# Altium footprint library FootPrintLib_5.PCBLIB: 254 footprints (part 9 of 16)
Each footprint in its own frame and in the unit in brackets; x right, y up, seen from the top. Pads: shape width x height; smd on the part's side, far side on the other; paste and mask are expansions set on the pad; w line width, h text height; cw(c..) or ccw(c..) is an arc to the next point about the centre after c.
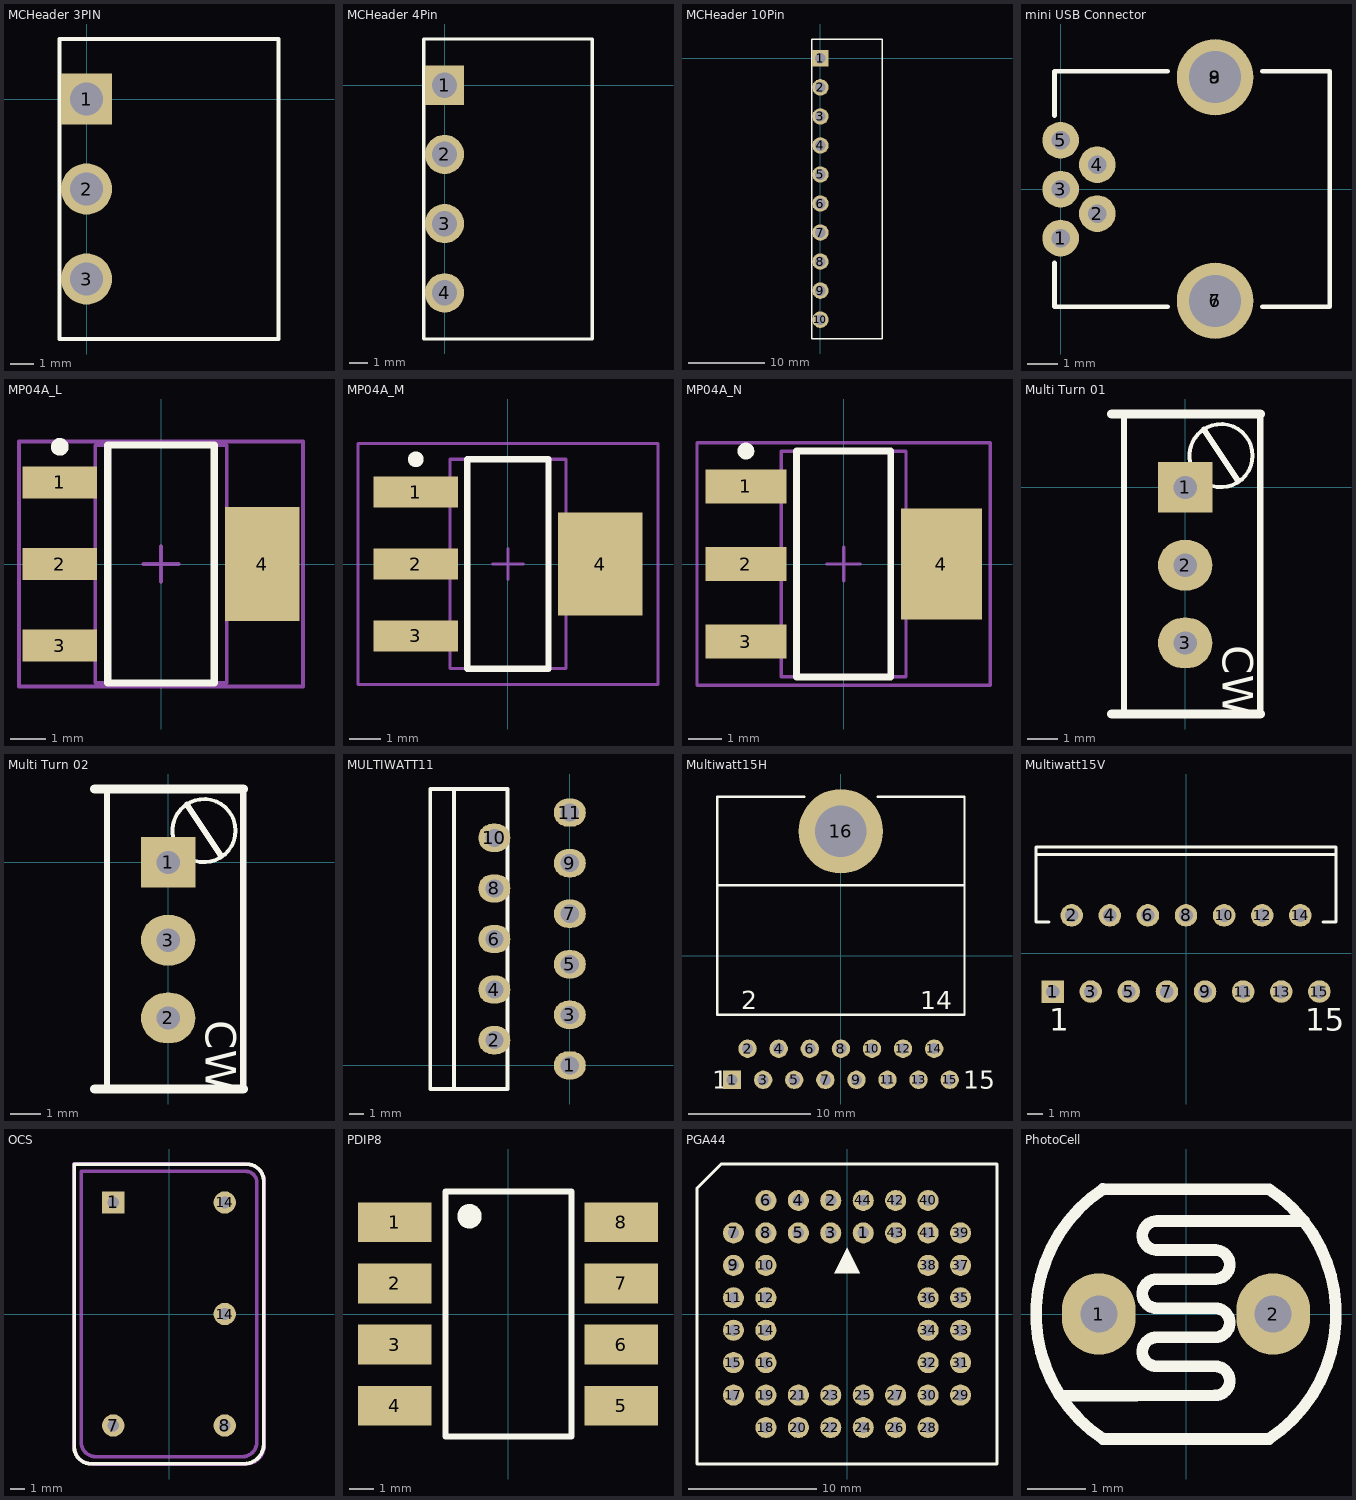
[diagram p8: the footprints below, top view; thin cyan lines are the x and y axes]

## MCHeader 3PIN [mil]
pads (3):
  rect 85x85 hole 55: 1(0,0)
  round 85 hole 55: 2(0,-150) 3(0,-300)
Top Overlay:
  lines w7: -45,-400 320,-400 320,100 -45,100 -45,-400
3D body "mini combicon header 3pin.STEP": height 292.32, standoff -130.12, extent -46.09,-399 318.09,97.85

## MCHeader 4Pin [mil]
pads (4):
  rect 85x85 hole 55: 1(0,0)
  round 85 hole 55: 2(0,-150) 3(0,-300) 4(0,-450)
Top Overlay:
  lines w7: -45,-550 -45,100 320,100 320,-550 -45,-550
3D body "mini combicon header 4pin.STEP": height 292.32, standoff -130.12, extent -49.09,-550.85 315.09,96

## MCHeader 10Pin [mil]
pads (10):
  rect 85x85 hole 55: 1(0,0)
  round 85 hole 55: 2(0,-150) 3(0,-300) 4(0,-450) 5(0,-600) 6(0,-750) 7(0,-900) 8(0,-1050) 9(0,-1200) 10(0,-1350)
Top Overlay:
  lines w7: -45,-1450 320,-1450 320,100 -45,100 -45,-1450
3D body "mini combicon header 10pin.STEP": height 292.32, standoff -130.12, extent -47.09,-1446.85 317.09,100

## mini USB Connector [mm]
pads (9):
  round 1.2 hole 0.6: 1(0,-1.6) 2(1.2,-0.8) 3(0,0) 4(1.2,0.8) 5(0,1.6)
  round 2.5 hole 1.7: 6(5.05,-3.65) 7(5.05,-3.65) 8(5.05,3.66) 9(5.05,3.66)
Top Overlay:
  lines w0.15: -0.2,-2.4 -0.2,-3.85 3.5,-3.85 ; -0.2,2.4 -0.2,3.85 3.5,3.85 ; 6.6,-3.85 8.8,-3.85 8.8,3.85 6.6,3.85
3D body "5877.STEP": height 3.95, standoff -1.8, extent -0.2,-3.85 8.8,3.85

## MP04A_L [mm] "SOT223, 4-Leads, Body 6.5x3.5mm, Pitch 2.3mm, Lead Span 7mm, IPC High Density"
height 1.8
pads (4):
  rect 2.1x0.9 smd: 1(-2.85,2.3) 2(-2.85,0) 3(-2.85,-2.3)
  rect 2.1x3.2 smd: 4(2.85,0)
Top Overlay:
  circle w0.25: c-2.85,3.3 r0.125
  lines w0.2: -1.5,-3.35 1.5,-3.35 1.5,3.35 -1.5,3.35 -1.5,-3.35
Mechanical 13:
  lines w0.1: -1.85,-3.35 1.85,-3.35 1.85,3.35 -1.85,3.35 -1.85,-3.35
Mechanical 15:
  lines w0.1: -0.5,0 0.5,0 ; 0,-0.5 0,0.5 ; -4,-3.45 4,-3.45 4,3.45 -4,3.45 -4,-3.45
3D body "TO-223.STEP": height 1.64, standoff -0.04, extent -3.49,-3.242 3.49,3.242

## MP04A_M [mm] "SOT223, 4-Leads, Body 6.5x3.5mm, Pitch 2.3mm, Lead Span 7mm, IPC Low Density"
height 1.8
pads (4):
  rect 2.7x1 smd: 1(-2.95,2.3) 2(-2.95,0) 3(-2.95,-2.3)
  rect 2.7x3.3 smd: 4(2.95,0)
Top Overlay:
  circle w0.25: c-2.95,3.35 r0.125
  lines w0.2: -1.3,-3.35 1.3,-3.35 1.3,3.35 -1.3,3.35 -1.3,-3.35
Mechanical 13:
  lines w0.1: -1.85,-3.35 1.85,-3.35 1.85,3.35 -1.85,3.35 -1.85,-3.35
Mechanical 15:
  lines w0.1: -0.5,0 0.5,0 ; 0,-0.5 0,0.5 ; -4.8,-3.85 4.8,-3.85 4.8,3.85 -4.8,3.85 -4.8,-3.85
3D body "TO-223.STEP": height 1.64, standoff -0.04, extent -3.49,-3.242 3.49,3.242

## MP04A_N [mm] "SOT223, 4-Leads, Body 6.5x3.5mm, Pitch 2.3mm, Lead Span 7mm, IPC Medium Density"
height 1.8
pads (4):
  rect 2.4x1 smd: 1(-2.9,2.3) 2(-2.9,0) 3(-2.9,-2.3)
  rect 2.4x3.3 smd: 4(2.9,0)
Top Overlay:
  circle w0.25: c-2.9,3.35 r0.125
  lines w0.2: -1.4,-3.35 1.4,-3.35 1.4,3.35 -1.4,3.35 -1.4,-3.35
Mechanical 13:
  lines w0.1: -1.85,-3.35 1.85,-3.35 1.85,3.35 -1.85,3.35 -1.85,-3.35
Mechanical 15:
  lines w0.1: -0.5,0 0.5,0 ; 0,-0.5 0,0.5 ; -4.35,-3.6 4.35,-3.6 4.35,3.6 -4.35,3.6 -4.35,-3.6
3D body "TO-223.STEP": height 1.64, standoff -0.04, extent -3.49,-3.242 3.49,3.242

## Multi Turn 01 [mil] "Stand Multi Turn - Turning CW Increase P1~2 Resistor"
height 472.44
pads (3):
  rect 70x65 hole 30: 1(0,0)
  oval 70x65 hole 30: 2(0,-100) 3(0,-200)
Top Overlay:
  circle w5: c46.03,40.94 r40.58
  lines w7.87: -78.74,-291.34 -78.74,94.49 ; 24.02,74.41 67.72,8.66 ; 96.46,-291.34 96.46,94.49
  lines w11.81: -94.49,-291.34 96.46,-291.34 ; -94.49,94.49 96.46,94.49
  text "CW" at 48,-203 h39.37
3D body "multiturn.STEP": height 452.18, standoff -75.38, extent -73.75,-282.01 92,92.01

## Multi Turn 02 [mil]
pads (3):
  rect 70x65 hole 30: 1(0,0)
  oval 70x65 hole 30: 2(0,-200) 3(0,-100)
Top Overlay:
  circle w5: c46.03,40.94 r40.58
  lines w7.87: -78.74,-291.34 -78.74,94.49 ; 24.02,74.41 67.72,8.66 ; 96.46,-291.34 96.46,94.49
  lines w11.81: -94.49,-291.34 96.46,-291.34 ; -94.49,94.49 96.46,94.49
  text "CW" at 48,-203 h39.37
3D body "multiturn.STEP": height 452.18, standoff -75.38, extent -73.23,-285.04 92.52,88.98

## MULTIWATT11 [mil] "Use For L6203"
height 760
pads (11):
  oval 85x75 hole 48: 1(0,0) 2(-200,67) 3(0,134) 4(-200,201) 5(0,268) 6(-200,335) 7(0,402) 8(-200,469) 9(0,536) 10(-200,603) 11(0,670)
Top Overlay:
  lines w10: -317,732.5 -315,732.5 ; -307,-62.5 -307,732.5 ; -370,-62.5 -370,732.5 -165,732.5 -165,-62.5 -370,-62.5
3D body: height 490, standoff 60, extent -370,-62.5 -165,732.5
3D body: height 20, standoff -40, extent -11,652 11,689
3D body: height 20, standoff -40, extent -211,585 -189,622
3D body: height 20, standoff -40, extent -11,518 11,555
3D body: height 20, standoff -40, extent -211,451 -189,488
3D body: height 20, standoff -40, extent -11,384 11,421
3D body: height 20, standoff -40, extent -211,317 -189,354
3D body: height 20, standoff -40, extent -11,250 11,287
3D body: height 20, standoff -40, extent -211,183 -189,220
3D body: height 20, standoff -40, extent -11,116 11,153
3D body: height 20, standoff -40, extent -211,49 -189,86
3D body: height 20, standoff -40, extent -11,-18 11,19
3D body: height 42, standoff 20, extent -254,585 -189,622
3D body: height 62, standoff 42, extent -254,585 -232,622
3D body: height 62, standoff 42, extent -254,451 -232,488
3D body: height 42, standoff 20, extent -254,451 -189,488
3D body: height 62, standoff 42, extent -254,317 -232,354
3D body: height 42, standoff 20, extent -254,317 -189,354
3D body: height 62, standoff 42, extent -254,183 -232,220
3D body: height 42, standoff 20, extent -254,183 -189,220
3D body: height 62, standoff 42, extent -254,49 -232,86
3D body: height 42, standoff 20, extent -254,49 -189,86
3D body: height 42, standoff 20, extent -254,652 11,689
3D body: height 62, standoff 42, extent -254,652 -232,689
3D body: height 62, standoff 42, extent -254,518 -232,555
3D body: height 42, standoff 20, extent -254,518 11,555
3D body: height 62, standoff 42, extent -254,384 -232,421
3D body: height 42, standoff 20, extent -254,384 11,421
3D body: height 62, standoff 42, extent -254,250 -232,287
3D body: height 42, standoff 20, extent -254,250 11,287
3D body: height 62, standoff 42, extent -254,116 -232,153
3D body: height 42, standoff 20, extent -254,116 11,153
3D body: height 62, standoff 42, extent -254,-18 -232,19
3D body: height 42, standoff 20, extent -254,-18 11,19
3D body: height 760, standoff 62, extent -368,-61 -307,731

## Multiwatt15H [mm] "TO, Thru-Hole, Horizontal, Heatsink Mounted; 15 Bent Staggered Leads; Pitch 1.27 mm"
height 5
pads (16):
  rect 1.5x1.5 hole 0.9: 1(-8.89,-10.155)
  round 1.5 hole 0.9: 2(-7.62,-7.615) 3(-6.35,-10.155) 4(-5.08,-7.615) 5(-3.81,-10.155) 6(-2.54,-7.615) 7(-1.27,-10.155) 8(0,-7.615) 9(1.27,-10.155) 10(2.54,-7.615) 11(3.81,-10.155) 12(5.08,-7.615) 13(6.35,-10.155) 14(7.62,-7.615) 15(8.89,-10.155)
  round 6.9 hole 4.2: 16(0,10.155)
Top Overlay:
  lines w0.2: -10.1,5.755 10.1,5.755 ; -3,12.955 -10.1,12.955 -10.1,-4.845 10.1,-4.845 10.1,12.955 3,12.955
  text "1" at -10.515,-10.905 h1.5
  text "15" at 10.015,-10.905 h1.5
  text "14" at 6.495,-4.37 h1.5
  text "2" at -8.12,-4.37 h1.5

## Multiwatt15V [mm] "TO, Thru-Hole, Vertical, Heatsink Mounted; 15 Bent Staggered Leads; Pitch 1.27 mm"
height 21
pads (15):
  rect 1.5x1.5 hole 0.9: 1(-8.89,-2.54)
  round 1.5 hole 0.9: 2(-7.62,2.54) 3(-6.35,-2.54) 4(-5.08,2.54) 5(-3.81,-2.54) 6(-2.54,2.54) 7(-1.27,-2.54) 8(0,2.54) 9(1.27,-2.54) 10(2.54,2.54) 11(3.81,-2.54) 12(5.08,2.54) 13(6.35,-2.54) 14(7.62,2.54) 15(8.89,-2.54)
Top Overlay:
  lines w0.2: -10,6.59 10,6.59 ; -9.144,2.09 -10,2.09 -10,7.09 10,7.09 10,2.09 9.144,2.09
  text "15" at 7.94,-5.165 h1.5
  text "1" at -9.12,-5.165 h1.5

## OCS [mil]
pads (5):
  rect 60x60 hole 32: 1(-150,300)
  round 60 hole 32: 7(-150,-300) 8(150,-300) 14(150,0) 14(150,300)
Top Overlay:
  lines w10: -255,-358 ccw(c-210,-358) -210,-403 202,-403 ccw(c202,-350) 255,-350 255,350 255,358 ccw(c210,358) 210,403 -210,403 -255,403 -255,350 -255,-350 -255,-358
Mechanical 1:
  circle w10: c-150,-300 r10
  circle w10: c150,-300 r10
  circle w10: c150,300 r10
  circle w10: c-150,300 r10
  lines w10: -255.91,-354.33 ccw(c-206.69,-354.33) -206.69,-403.54 206.69,-403.54 ccw(c206.69,-354.33) 255.91,-354.33 255.91,354.33 ccw(c206.69,354.33) 206.69,403.54 -255.91,403.54 -255.91,-354.33 ; -236.22,-344.49 ccw(c-196.85,-344.49) -196.85,-383.86 196.85,-383.86 ccw(c196.85,-344.49) 236.22,-344.49 236.22,354.33 ccw(c206.69,354.33) 206.69,383.86 -236.22,383.86 -236.22,-344.49
3D body: height 30, standoff 0, extent -255.89,-403.52 255.89,403.52
3D body: height 170, standoff 0, extent -236.2,-383.84 236.2,383.84
3D body: height 0, standoff -50, extent -159.98,-309.98 -140.02,-290.02
3D body: height 0, standoff -50, extent 140.02,-309.98 159.98,-290.02
3D body: height 0, standoff -50, extent -159.98,290.02 -140.02,309.98
3D body: height 0, standoff -50, extent 140.02,290.02 159.98,309.98

## PDIP8 [mil] "DIP8 SMD Package"
pads (8):
  rect 120x65 smd: 1(-185,150) 2(-185,50) 3(-185,-50) 4(-185,-150) 5(185,-150) 6(185,-50) 7(185,50) 8(185,150)
Top Overlay:
  circle w20: c-62.92,159.64 r10
  lines w10: -102,-200 -102,200 104,200 104,-200 -102,-200
3D body "SW3dPS-pdip8-smd.STEP": height 200, standoff 0, extent -202.75,-195.08 202.76,195.08

## PGA44 [mil] "PLCC Socket with 44 Positions"
pads (44):
  round 65 hole 35: 1(50,250) 2(-50,350) 3(-50,250) 4(-150,350) 5(-150,250) 6(-250,350) 7(-350,250) 8(-250,250) 9(-350,150) 10(-250,150) 11(-350,50) 12(-250,50) 13(-350,-50) 14(-250,-50) 15(-350,-150) 16(-250,-150) 17(-350,-250) 18(-250,-350) 19(-250,-250) 20(-150,-350) 21(-150,-250) 22(-50,-350) 23(-50,-250) 24(50,-350) 25(50,-250) 26(150,-350) 27(150,-250) 28(250,-350) 29(350,-250) 30(250,-250) 31(350,-150) 32(250,-150) 33(350,-50) 34(250,-50) 35(350,50) 36(250,50) 37(350,150) 38(250,150) 39(350,250) 40(250,350) 41(250,250) 42(150,350) 43(150,250) 44(50,350)
Top Overlay:
  region: 0,205 40,125 -40,125
  lines w10: -462.5,-462.5 462.5,-462.5 462.5,462.5 -387.5,462.5 -462.5,387.5 -462.5,-462.5
3D body "Full PLCC 44 Socket.STEP": height 312.16, standoff -86.4, extent -462.5,-462.5 462.5,462.5

## PhotoCell [mm]
pads (2):
  oval 1.27x1.397 hole 0.635: 1(-1.5,0) 2(1.5,0)
Top Overlay:
  lines w0.2: -2.16,-1.41 0.5,-1.4 ccw(c0.502,-1.15) 0.501,-0.9 -0.5,-0.9 cw(c-0.502,-0.65) -0.5,-0.4 0.5,-0.4 ccw(c0.502,-0.15) 0.501,0.1 -0.5,0.1 cw(c-0.502,0.35) -0.5,0.6 0.5,0.6 ccw(c0.502,0.85) 0.501,1.1 -0.499,1.1 ; -1.43,-2.15 1.429,-2.15 ; -1.43,2.15 1.429,2.148 cw(c0,0) 1.428,-2.149 ; -1.429,-2.148 cw(c0,0) -1.429,2.148 ; -0.5,1.1 cw(c-0.501,1.35) -0.499,1.6 2.03,1.6
3D body "LDR.STEP": height 2.44, standoff -2.3, extent -2.605,-2.159 2.605,2.141